# Altium footprint library RS40X.PcbLib: 1 footprints
Each footprint in its own frame and in the unit in brackets; x right, y up, seen from the top. Pads: shape width x height; smd on the part's side, far side on the other; paste and mask are expansions set on the pad; w line width, h text height; cw(c..) or ccw(c..) is an arc to the next point about the centre after c.
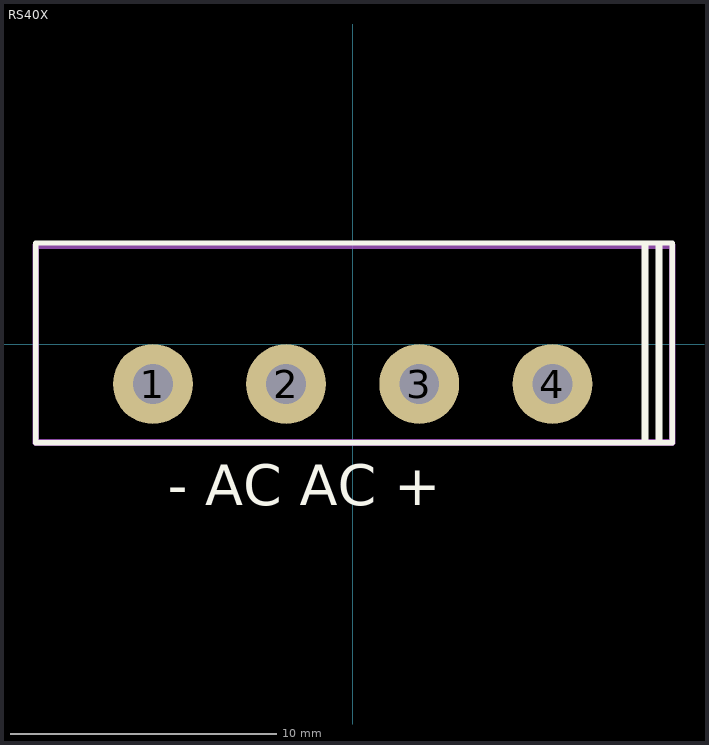
[diagram p0: the footprint, top view; thin cyan lines are the x and y axes]

## RS40X [mm]
height 0.55
pads (4):
  round 3 hole 1.5: 1(-7.5,-1.5) 2(-2.5,-1.5) 3(2.5,-1.5) 4(7.5,-1.5)
Top Overlay:
  lines w0.2: -11.9,-3.7 -11.9,3.8 12,3.8 12,-3.7 -11.9,-3.7
  lines w0.254: 10.977,-3.661 10.977,3.7 ; 11.5,-3.6 11.5,3.7
  text "- AC AC +" at -6.946,-6.046 h1.52
Top Assembly:
  lines w0.254: -11.9,-3.7 12,-3.7 12,3.7 -11.9,3.7 -11.9,-3.7
  text "'.Designator'" at -0.975,-0.35 h0.7
3D body "User Library-RS40X.STEP": height 19.76, standoff -8, extent -11.81,-3.55 11.81,3.55